# EAGLE library part ARRAY8 (library custom-2002)
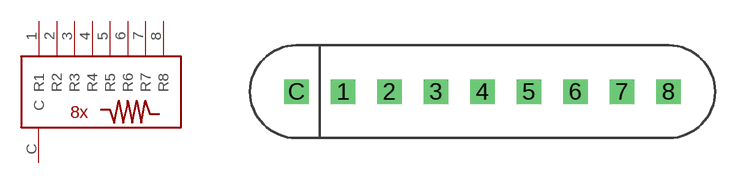
[diagram p13: symbol with the pads of RED8; footprint RED8]

Designator prefix -

## ARRAY8  [RED8]
1  R1
2  R2
3  R3
4  R4
5  R5
6  R6
7  R7
8  R8
C  C

## Footprint RED8 (pad centres in mm)
Red de 8 resistencias
drill 0.813 square: 1 2.54,0; 2 5.08,0; 3 7.62,0; 4 10.16,0; 5 12.7,0; 6 15.24,0; 7 17.78,0; 8 20.32,0; C 0,0